# Altium schematic symbol library 4.0inch_LCD_Schematic_Package_library.SCHLIB: 1 symbol
Pins are listed as number, name and electrical type; pins without a type are passive.

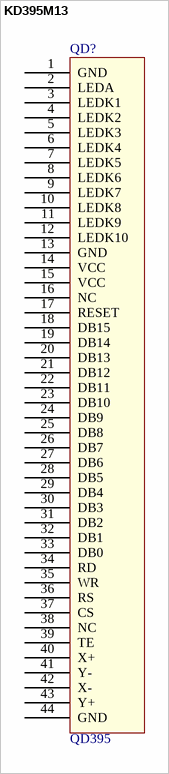
[diagram p0: symbol KD395M13]

## KD395M13
designator QD?, comment QD395
footprint 3.95
pins: 1 GND, 2 LEDA, 3 LEDK1, 4 LEDK2, 5 LEDK3, 6 LEDK4, 7 LEDK5, 8 LEDK6, 9 LEDK7, 10 LEDK8, 11 LEDK9, 12 LEDK10, 13 GND, 14 VCC, 15 VCC, 16 NC, 17 RESET, 18 DB15, 19 DB14, 20 DB13, 21 DB12, 22 DB11, 23 DB10, 24 DB9, 25 DB8, 26 DB7, 27 DB6, 28 DB5, 29 DB4, 30 DB3, 31 DB2, 32 DB1, 33 DB0, 34 RD, 35 WR, 36 RS, 37 CS, 38 NC, 39 TE, 40 X+, 41 Y-, 42 X-, 43 Y+, 44 GND